# EAGLE library part 450404015514 (library SamacSys_Parts)
Slide Switch SPDT Surface Mount Source: Datasheet <https://katalog.we-online.de/em/datasheet/450404015514.pdf>
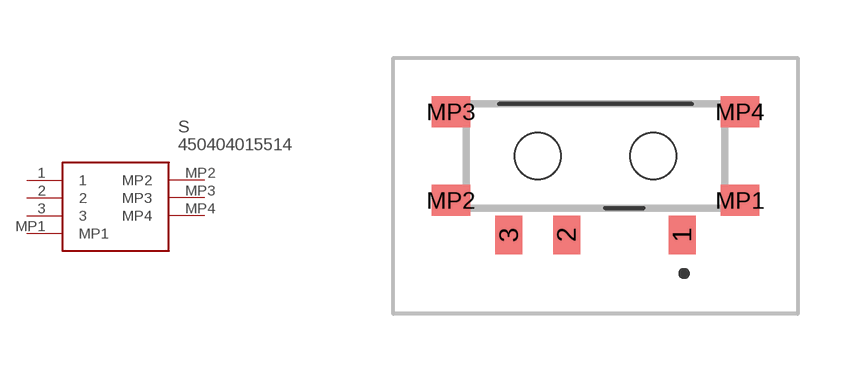
[diagram p11: symbol with the pads of 450404015514; footprint 450404015514]

Designator prefix S

## 450404015514 (Description: Slide Switch SPDT Surface Mount; Height: 1.4mm; Manufacturer_Name: Wurth Elektronik; Manufacturer_Part_Number: 450404015514; Mouser_Part_Number: 710-450404015514; Mouser_Price-Stock: https://www.mouser.co.uk/ProductDetail/Wurth-Elektronik/450404015514?qs=sPbYRqrBIVk21%2FxsES2IZA%3D%3D)  [450404015514]
1  1
2  2
3  3
MP1  MP1
MP2  MP2
MP3  MP3
MP4  MP4

## Footprint 450404015514 (pad centres in mm)
450404015514-2
smd 0.7 x 1: 1 2.25,-2.05; 2 -0.75,-2.05; 3 -2.25,-2.05
smd 1 x 0.8: MP1 3.75,-1.15; MP2 -3.75,-1.15; MP3 -3.75,1.15; MP4 3.75,1.15
hole 1.2 at 1.5,0
hole 1.2 at -1.5,0